# Altium integrated library Teccor Discrete SCR.IntLib: 103 symbols (part 1 of 2)
Pins are listed as number, name and electrical type; pins without a type are passive.

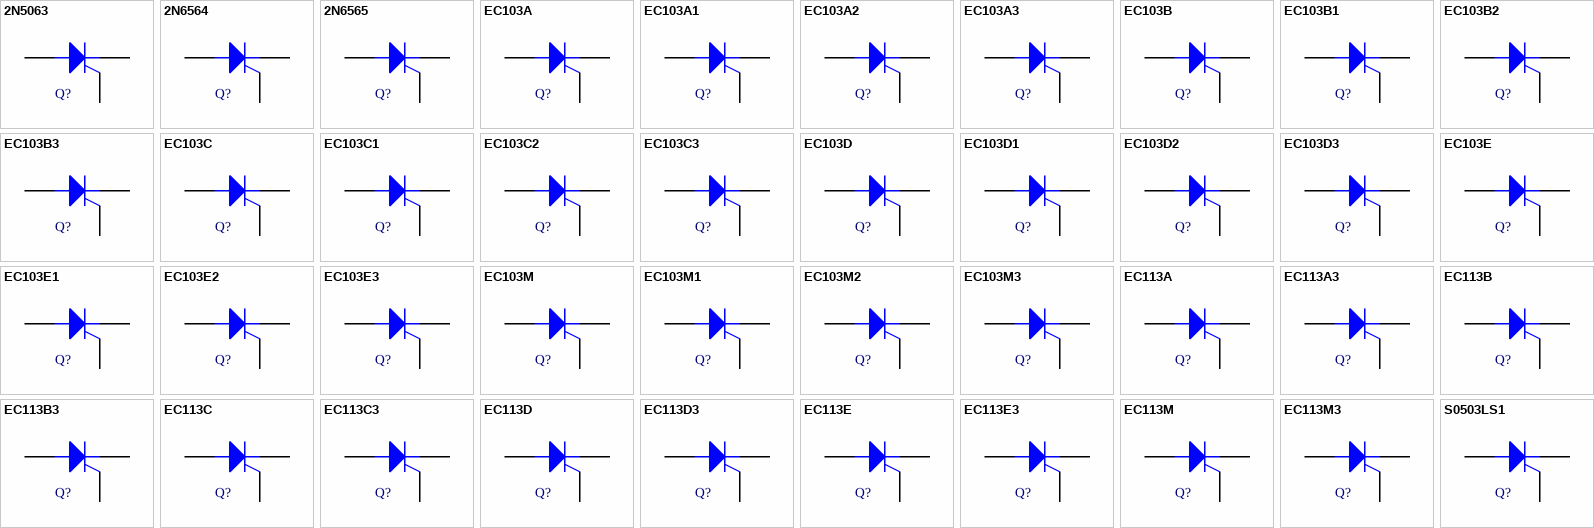
[diagram p0: symbols 2N5063 to S0503LS1]

## 2N5063
designator Q?
Sensitive SCR (0.8 Amp); Published: 8-Jun-2000; LatestRevisionDate: 17-Jul-2002; LatestRevisionNote: Re-released for DXP Platform.; PackageReference: TO-92; Publisher: Altium Limited; ComponentLink1Description: Manufacturer Link; ComponentLink1URL: http://www.littelfuse.com/; ComponentLink2Description: Datasheet; ComponentLink2URL: http://www.littelfuse.com/data/en/Data_Sheets/E5SensitiveSCR.pdf
footprint TO-92 (TO, Flat Index; 3 In-Line, Axial Leads; Body Dia. 4.6mm; Leads 0.48 x 0.43 mm (max))
simulation model 2N5063 (SUBCKT)
pins: 1 K, 2 G, 3 A

## 2N6564
designator Q?
Sensitive SCR (0.8 Amp); Published: 8-Jun-2000; LatestRevisionDate: 17-Jul-2002; LatestRevisionNote: Re-released for DXP Platform.; PackageReference: TO-92; Publisher: Altium Limited; ComponentLink1Description: Manufacturer Link; ComponentLink1URL: http://www.littelfuse.com/; ComponentLink2Description: Datasheet; ComponentLink2URL: http://www.littelfuse.com/data/en/Data_Sheets/E5SensitiveSCR.pdf
footprint TO-92 (TO, Flat Index; 3 In-Line, Axial Leads; Body Dia. 4.6mm; Leads 0.48 x 0.43 mm (max))
simulation model 2N6564 (SUBCKT)
pins: 1 K, 2 G, 3 A

## 2N6565
designator Q?
Sensitive SCR (0.8 Amp); Published: 8-Jun-2000; LatestRevisionDate: 17-Jul-2002; LatestRevisionNote: Re-released for DXP Platform.; PackageReference: TO-92; Publisher: Altium Limited; ComponentLink1Description: Manufacturer Link; ComponentLink1URL: http://www.littelfuse.com/; ComponentLink2Description: Datasheet; ComponentLink2URL: http://www.littelfuse.com/data/en/Data_Sheets/E5SensitiveSCR.pdf
footprint TO-92 (TO, Flat Index; 3 In-Line, Axial Leads; Body Dia. 4.6mm; Leads 0.48 x 0.43 mm (max))
simulation model 2N6565 (SUBCKT)
pins: 1 K, 2 G, 3 A

## EC103A
designator Q?
Sensitive SCR (0.8 Amp); Published: 8-Jun-2000; LatestRevisionDate: 17-Jul-2002; LatestRevisionNote: Re-released for DXP Platform.; PackageReference: TO-92; Publisher: Altium Limited; ComponentLink1Description: Manufacturer Link; ComponentLink1URL: http://www.littelfuse.com/; ComponentLink2Description: Datasheet; ComponentLink2URL: http://www.littelfuse.com/data/en/Data_Sheets/E5SensitiveSCR.pdf
footprint TO-92 (TO, Flat Index; 3 In-Line, Axial Leads; Body Dia. 4.6mm; Leads 0.48 x 0.43 mm (max))
simulation model EC103A (SUBCKT)
pins: 1 K, 2 G, 3 A

## EC103A1
designator Q?
Sensitive SCR (0.8 Amp); Published: 8-Jun-2000; LatestRevisionDate: 17-Jul-2002; LatestRevisionNote: Re-released for DXP Platform.; PackageReference: TO-92; Publisher: Altium Limited; ComponentLink1Description: Manufacturer Link; ComponentLink1URL: http://www.littelfuse.com/; ComponentLink2Description: Datasheet; ComponentLink2URL: http://www.littelfuse.com/data/en/Data_Sheets/E5SensitiveSCR.pdf
footprint TO-92 (TO, Flat Index; 3 In-Line, Axial Leads; Body Dia. 4.6mm; Leads 0.48 x 0.43 mm (max))
simulation model EC103A1 (SUBCKT)
pins: 1 K, 2 G, 3 A

## EC103A2
designator Q?
Sensitive SCR (0.8 Amp); Published: 8-Jun-2000; LatestRevisionDate: 17-Jul-2002; LatestRevisionNote: Re-released for DXP Platform.; PackageReference: TO-92; Publisher: Altium Limited; ComponentLink1Description: Manufacturer Link; ComponentLink1URL: http://www.littelfuse.com/; ComponentLink2Description: Datasheet; ComponentLink2URL: http://www.littelfuse.com/data/en/Data_Sheets/E5SensitiveSCR.pdf
footprint TO-92 (TO, Flat Index; 3 In-Line, Axial Leads; Body Dia. 4.6mm; Leads 0.48 x 0.43 mm (max))
simulation model EC103A2 (SUBCKT)
pins: 1 K, 2 G, 3 A

## EC103A3
designator Q?
Sensitive SCR (0.8 Amp); Published: 8-Jun-2000; LatestRevisionDate: 17-Jul-2002; LatestRevisionNote: Re-released for DXP Platform.; PackageReference: TO-92; Publisher: Altium Limited; ComponentLink1Description: Manufacturer Link; ComponentLink1URL: http://www.littelfuse.com/; ComponentLink2Description: Datasheet; ComponentLink2URL: http://www.littelfuse.com/data/en/Data_Sheets/E5SensitiveSCR.pdf
footprint TO-92 (TO, Flat Index; 3 In-Line, Axial Leads; Body Dia. 4.6mm; Leads 0.48 x 0.43 mm (max))
simulation model EC103A3 (SUBCKT)
pins: 1 K, 2 G, 3 A

## EC103B
designator Q?
Sensitive SCR (0.8 Amp); Published: 8-Jun-2000; LatestRevisionDate: 17-Jul-2002; LatestRevisionNote: Re-released for DXP Platform.; PackageReference: TO-92; Publisher: Altium Limited; ComponentLink1Description: Manufacturer Link; ComponentLink1URL: http://www.littelfuse.com/; ComponentLink2Description: Datasheet; ComponentLink2URL: http://www.littelfuse.com/data/en/Data_Sheets/E5SensitiveSCR.pdf
footprint TO-92 (TO, Flat Index; 3 In-Line, Axial Leads; Body Dia. 4.6mm; Leads 0.48 x 0.43 mm (max))
simulation model EC103B (SUBCKT)
pins: 1 K, 2 G, 3 A

## EC103B1
designator Q?
Sensitive SCR (0.8 Amp); Published: 8-Jun-2000; LatestRevisionDate: 17-Jul-2002; LatestRevisionNote: Re-released for DXP Platform.; PackageReference: TO-92; Publisher: Altium Limited; ComponentLink1Description: Manufacturer Link; ComponentLink1URL: http://www.littelfuse.com/; ComponentLink2Description: Datasheet; ComponentLink2URL: http://www.littelfuse.com/data/en/Data_Sheets/E5SensitiveSCR.pdf
footprint TO-92 (TO, Flat Index; 3 In-Line, Axial Leads; Body Dia. 4.6mm; Leads 0.48 x 0.43 mm (max))
simulation model EC103B1 (SUBCKT)
pins: 1 K, 2 G, 3 A

## EC103B2
designator Q?
Sensitive SCR (0.8 Amp); Published: 8-Jun-2000; LatestRevisionDate: 17-Jul-2002; LatestRevisionNote: Re-released for DXP Platform.; PackageReference: TO-92; Publisher: Altium Limited; ComponentLink1Description: Manufacturer Link; ComponentLink1URL: http://www.littelfuse.com/; ComponentLink2Description: Datasheet; ComponentLink2URL: http://www.littelfuse.com/data/en/Data_Sheets/E5SensitiveSCR.pdf
footprint TO-92 (TO, Flat Index; 3 In-Line, Axial Leads; Body Dia. 4.6mm; Leads 0.48 x 0.43 mm (max))
simulation model EC103B2 (SUBCKT)
pins: 1 K, 2 G, 3 A

## EC103B3
designator Q?
Sensitive SCR (0.8 Amp); Published: 8-Jun-2000; LatestRevisionDate: 17-Jul-2002; LatestRevisionNote: Re-released for DXP Platform.; PackageReference: TO-92; Publisher: Altium Limited; ComponentLink1Description: Manufacturer Link; ComponentLink1URL: http://www.littelfuse.com/; ComponentLink2Description: Datasheet; ComponentLink2URL: http://www.littelfuse.com/data/en/Data_Sheets/E5SensitiveSCR.pdf
footprint TO-92 (TO, Flat Index; 3 In-Line, Axial Leads; Body Dia. 4.6mm; Leads 0.48 x 0.43 mm (max))
simulation model EC103B3 (SUBCKT)
pins: 1 K, 2 G, 3 A

## EC103C
designator Q?
Sensitive SCR (0.8 Amp); Published: 8-Jun-2000; LatestRevisionDate: 17-Jul-2002; LatestRevisionNote: Re-released for DXP Platform.; PackageReference: TO-92; Publisher: Altium Limited; ComponentLink1Description: Manufacturer Link; ComponentLink1URL: http://www.littelfuse.com/; ComponentLink2Description: Datasheet; ComponentLink2URL: http://www.littelfuse.com/data/en/Data_Sheets/E5SensitiveSCR.pdf
footprint TO-92 (TO, Flat Index; 3 In-Line, Axial Leads; Body Dia. 4.6mm; Leads 0.48 x 0.43 mm (max))
simulation model EC103C (SUBCKT)
pins: 1 K, 2 G, 3 A

## EC103C1
designator Q?
Sensitive SCR (0.8 Amp); Published: 8-Jun-2000; LatestRevisionDate: 17-Jul-2002; LatestRevisionNote: Re-released for DXP Platform.; PackageReference: TO-92; Publisher: Altium Limited; ComponentLink1Description: Manufacturer Link; ComponentLink1URL: http://www.littelfuse.com/; ComponentLink2Description: Datasheet; ComponentLink2URL: http://www.littelfuse.com/data/en/Data_Sheets/E5SensitiveSCR.pdf
footprint TO-92 (TO, Flat Index; 3 In-Line, Axial Leads; Body Dia. 4.6mm; Leads 0.48 x 0.43 mm (max))
simulation model EC103C1 (SUBCKT)
pins: 1 K, 2 G, 3 A

## EC103C2
designator Q?
Sensitive SCR (0.8 Amp); Published: 8-Jun-2000; LatestRevisionDate: 17-Jul-2002; LatestRevisionNote: Re-released for DXP Platform.; PackageReference: TO-92; Publisher: Altium Limited; ComponentLink1Description: Manufacturer Link; ComponentLink1URL: http://www.littelfuse.com/; ComponentLink2Description: Datasheet; ComponentLink2URL: http://www.littelfuse.com/data/en/Data_Sheets/E5SensitiveSCR.pdf
footprint TO-92 (TO, Flat Index; 3 In-Line, Axial Leads; Body Dia. 4.6mm; Leads 0.48 x 0.43 mm (max))
simulation model EC103C2 (SUBCKT)
pins: 1 K, 2 G, 3 A

## EC103C3
designator Q?
Sensitive SCR (0.8 Amp); Published: 8-Jun-2000; LatestRevisionDate: 17-Jul-2002; LatestRevisionNote: Re-released for DXP Platform.; PackageReference: TO-92; Publisher: Altium Limited; ComponentLink1Description: Manufacturer Link; ComponentLink1URL: http://www.littelfuse.com/; ComponentLink2Description: Datasheet; ComponentLink2URL: http://www.littelfuse.com/data/en/Data_Sheets/E5SensitiveSCR.pdf
footprint TO-92 (TO, Flat Index; 3 In-Line, Axial Leads; Body Dia. 4.6mm; Leads 0.48 x 0.43 mm (max))
simulation model EC103C3 (SUBCKT)
pins: 1 K, 2 G, 3 A

## EC103D
designator Q?
Sensitive SCR (0.8 Amp); Published: 8-Jun-2000; LatestRevisionDate: 17-Jul-2002; LatestRevisionNote: Re-released for DXP Platform.; PackageReference: TO-92; Publisher: Altium Limited; ComponentLink1Description: Manufacturer Link; ComponentLink1URL: http://www.littelfuse.com/; ComponentLink2Description: Datasheet; ComponentLink2URL: http://www.littelfuse.com/data/en/Data_Sheets/E5SensitiveSCR.pdf
footprint TO-92 (TO, Flat Index; 3 In-Line, Axial Leads; Body Dia. 4.6mm; Leads 0.48 x 0.43 mm (max))
simulation model EC103D (SUBCKT)
pins: 1 K, 2 G, 3 A

## EC103D1
designator Q?
Sensitive SCR (0.8 Amp); Published: 8-Jun-2000; LatestRevisionDate: 17-Jul-2002; LatestRevisionNote: Re-released for DXP Platform.; PackageReference: TO-92; Publisher: Altium Limited; ComponentLink1Description: Manufacturer Link; ComponentLink1URL: http://www.littelfuse.com/; ComponentLink2Description: Datasheet; ComponentLink2URL: http://www.littelfuse.com/data/en/Data_Sheets/E5SensitiveSCR.pdf
footprint TO-92 (TO, Flat Index; 3 In-Line, Axial Leads; Body Dia. 4.6mm; Leads 0.48 x 0.43 mm (max))
simulation model EC103D1 (SUBCKT)
pins: 1 K, 2 G, 3 A

## EC103D2
designator Q?
Sensitive SCR (0.8 Amp); Published: 8-Jun-2000; LatestRevisionDate: 17-Jul-2002; LatestRevisionNote: Re-released for DXP Platform.; PackageReference: TO-92; Publisher: Altium Limited; ComponentLink1Description: Manufacturer Link; ComponentLink1URL: http://www.littelfuse.com/; ComponentLink2Description: Datasheet; ComponentLink2URL: http://www.littelfuse.com/data/en/Data_Sheets/E5SensitiveSCR.pdf
footprint TO-92 (TO, Flat Index; 3 In-Line, Axial Leads; Body Dia. 4.6mm; Leads 0.48 x 0.43 mm (max))
simulation model EC103D2 (SUBCKT)
pins: 1 K, 2 G, 3 A

## EC103D3
designator Q?
Sensitive SCR (0.8 Amp); Published: 8-Jun-2000; LatestRevisionDate: 17-Jul-2002; LatestRevisionNote: Re-released for DXP Platform.; PackageReference: TO-92; Publisher: Altium Limited; ComponentLink1Description: Manufacturer Link; ComponentLink1URL: http://www.littelfuse.com/; ComponentLink2Description: Datasheet; ComponentLink2URL: http://www.littelfuse.com/data/en/Data_Sheets/E5SensitiveSCR.pdf
footprint TO-92 (TO, Flat Index; 3 In-Line, Axial Leads; Body Dia. 4.6mm; Leads 0.48 x 0.43 mm (max))
simulation model EC103D3 (SUBCKT)
pins: 1 K, 2 G, 3 A

## EC103E
designator Q?
Sensitive SCR (0.8 Amp); Published: 8-Jun-2000; LatestRevisionDate: 17-Jul-2002; LatestRevisionNote: Re-released for DXP Platform.; PackageReference: TO-92; Publisher: Altium Limited; ComponentLink1Description: Manufacturer Link; ComponentLink1URL: http://www.littelfuse.com/; ComponentLink2Description: Datasheet; ComponentLink2URL: http://www.littelfuse.com/data/en/Data_Sheets/E5SensitiveSCR.pdf
footprint TO-92 (TO, Flat Index; 3 In-Line, Axial Leads; Body Dia. 4.6mm; Leads 0.48 x 0.43 mm (max))
simulation model EC103E (SUBCKT)
pins: 1 K, 2 G, 3 A

## EC103E1
designator Q?
Sensitive SCR (0.8 Amp); Published: 8-Jun-2000; LatestRevisionDate: 17-Jul-2002; LatestRevisionNote: Re-released for DXP Platform.; PackageReference: TO-92; Publisher: Altium Limited; ComponentLink1Description: Manufacturer Link; ComponentLink1URL: http://www.littelfuse.com/; ComponentLink2Description: Datasheet; ComponentLink2URL: http://www.littelfuse.com/data/en/Data_Sheets/E5SensitiveSCR.pdf
footprint TO-92 (TO, Flat Index; 3 In-Line, Axial Leads; Body Dia. 4.6mm; Leads 0.48 x 0.43 mm (max))
simulation model EC103E1 (SUBCKT)
pins: 1 K, 2 G, 3 A

## EC103E2
designator Q?
Sensitive SCR (0.8 Amp); Published: 8-Jun-2000; LatestRevisionDate: 17-Jul-2002; LatestRevisionNote: Re-released for DXP Platform.; PackageReference: TO-92; Publisher: Altium Limited; ComponentLink1Description: Manufacturer Link; ComponentLink1URL: http://www.littelfuse.com/; ComponentLink2Description: Datasheet; ComponentLink2URL: http://www.littelfuse.com/data/en/Data_Sheets/E5SensitiveSCR.pdf
footprint TO-92 (TO, Flat Index; 3 In-Line, Axial Leads; Body Dia. 4.6mm; Leads 0.48 x 0.43 mm (max))
simulation model EC103E2 (SUBCKT)
pins: 1 K, 2 G, 3 A

## EC103E3
designator Q?
Sensitive SCR (0.8 Amp); Published: 8-Jun-2000; LatestRevisionDate: 17-Jul-2002; LatestRevisionNote: Re-released for DXP Platform.; PackageReference: TO-92; Publisher: Altium Limited; ComponentLink1Description: Manufacturer Link; ComponentLink1URL: http://www.littelfuse.com/; ComponentLink2Description: Datasheet; ComponentLink2URL: http://www.littelfuse.com/data/en/Data_Sheets/E5SensitiveSCR.pdf
footprint TO-92 (TO, Flat Index; 3 In-Line, Axial Leads; Body Dia. 4.6mm; Leads 0.48 x 0.43 mm (max))
simulation model EC103E3 (SUBCKT)
pins: 1 K, 2 G, 3 A

## EC103M
designator Q?
Sensitive SCR (0.8 Amp); Published: 8-Jun-2000; LatestRevisionDate: 17-Jul-2002; LatestRevisionNote: Re-released for DXP Platform.; PackageReference: TO-92; Publisher: Altium Limited; ComponentLink1Description: Manufacturer Link; ComponentLink1URL: http://www.littelfuse.com/; ComponentLink2Description: Datasheet; ComponentLink2URL: http://www.littelfuse.com/data/en/Data_Sheets/E5SensitiveSCR.pdf
footprint TO-92 (TO, Flat Index; 3 In-Line, Axial Leads; Body Dia. 4.6mm; Leads 0.48 x 0.43 mm (max))
simulation model EC103M (SUBCKT)
pins: 1 K, 2 G, 3 A

## EC103M1
designator Q?
Sensitive SCR (0.8 Amp); Published: 8-Jun-2000; LatestRevisionDate: 17-Jul-2002; LatestRevisionNote: Re-released for DXP Platform.; PackageReference: TO-92; Publisher: Altium Limited; ComponentLink1Description: Manufacturer Link; ComponentLink1URL: http://www.littelfuse.com/; ComponentLink2Description: Datasheet; ComponentLink2URL: http://www.littelfuse.com/data/en/Data_Sheets/E5SensitiveSCR.pdf
footprint TO-92 (TO, Flat Index; 3 In-Line, Axial Leads; Body Dia. 4.6mm; Leads 0.48 x 0.43 mm (max))
simulation model EC103M1 (SUBCKT)
pins: 1 K, 2 G, 3 A

## EC103M2
designator Q?
Sensitive SCR (0.8 Amp); Published: 8-Jun-2000; LatestRevisionDate: 17-Jul-2002; LatestRevisionNote: Re-released for DXP Platform.; PackageReference: TO-92; Publisher: Altium Limited; ComponentLink1Description: Manufacturer Link; ComponentLink1URL: http://www.littelfuse.com/; ComponentLink2Description: Datasheet; ComponentLink2URL: http://www.littelfuse.com/data/en/Data_Sheets/E5SensitiveSCR.pdf
footprint TO-92 (TO, Flat Index; 3 In-Line, Axial Leads; Body Dia. 4.6mm; Leads 0.48 x 0.43 mm (max))
simulation model EC103M2 (SUBCKT)
pins: 1 K, 2 G, 3 A

## EC103M3
designator Q?
Sensitive SCR (0.8 Amp); Published: 8-Jun-2000; LatestRevisionDate: 17-Jul-2002; LatestRevisionNote: Re-released for DXP Platform.; PackageReference: TO-92; Publisher: Altium Limited; ComponentLink1Description: Manufacturer Link; ComponentLink1URL: http://www.littelfuse.com/; ComponentLink2Description: Datasheet; ComponentLink2URL: http://www.littelfuse.com/data/en/Data_Sheets/E5SensitiveSCR.pdf
footprint TO-92 (TO, Flat Index; 3 In-Line, Axial Leads; Body Dia. 4.6mm; Leads 0.48 x 0.43 mm (max))
simulation model EC103M3 (SUBCKT)
pins: 1 K, 2 G, 3 A

## EC113A
designator Q?
Sensitive SCR (0.8 Amp); Published: 8-Jun-2000; LatestRevisionDate: 17-Jul-2002; LatestRevisionNote: Re-released for DXP Platform.; PackageReference: TO-92; Publisher: Altium Limited; ComponentLink1Description: Manufacturer Link; ComponentLink1URL: http://www.littelfuse.com/; ComponentLink2Description: Datasheet; ComponentLink2URL: http://www.littelfuse.com/data/en/Data_Sheets/E5SensitiveSCR.pdf
footprint TO-92 (TO, Flat Index; 3 In-Line, Axial Leads; Body Dia. 4.6mm; Leads 0.48 x 0.43 mm (max))
simulation model EC113A (SUBCKT)
pins: 1 K, 2 G, 3 A

## EC113A3
designator Q?
Sensitive SCR (0.8 Amp); Published: 8-Jun-2000; LatestRevisionDate: 17-Jul-2002; LatestRevisionNote: Re-released for DXP Platform.; PackageReference: TO-92; Publisher: Altium Limited; ComponentLink1Description: Manufacturer Link; ComponentLink1URL: http://www.littelfuse.com/; ComponentLink2Description: Datasheet; ComponentLink2URL: http://www.littelfuse.com/data/en/Data_Sheets/E5SensitiveSCR.pdf
footprint TO-92 (TO, Flat Index; 3 In-Line, Axial Leads; Body Dia. 4.6mm; Leads 0.48 x 0.43 mm (max))
simulation model EC113A3 (SUBCKT)
pins: 1 K, 2 G, 3 A

## EC113B
designator Q?
Sensitive SCR (0.8 Amp); Published: 8-Jun-2000; LatestRevisionDate: 17-Jul-2002; LatestRevisionNote: Re-released for DXP Platform.; PackageReference: TO-92; Publisher: Altium Limited; ComponentLink1Description: Manufacturer Link; ComponentLink1URL: http://www.littelfuse.com/; ComponentLink2Description: Datasheet; ComponentLink2URL: http://www.littelfuse.com/data/en/Data_Sheets/E5SensitiveSCR.pdf
footprint TO-92 (TO, Flat Index; 3 In-Line, Axial Leads; Body Dia. 4.6mm; Leads 0.48 x 0.43 mm (max))
simulation model EC113B (SUBCKT)
pins: 1 K, 2 G, 3 A

## EC113B3
designator Q?
Sensitive SCR (0.8 Amp); Published: 8-Jun-2000; LatestRevisionDate: 17-Jul-2002; LatestRevisionNote: Re-released for DXP Platform.; PackageReference: TO-92; Publisher: Altium Limited; ComponentLink1Description: Manufacturer Link; ComponentLink1URL: http://www.littelfuse.com/; ComponentLink2Description: Datasheet; ComponentLink2URL: http://www.littelfuse.com/data/en/Data_Sheets/E5SensitiveSCR.pdf
footprint TO-92 (TO, Flat Index; 3 In-Line, Axial Leads; Body Dia. 4.6mm; Leads 0.48 x 0.43 mm (max))
simulation model EC113B3 (SUBCKT)
pins: 1 K, 2 G, 3 A

## EC113C
designator Q?
Sensitive SCR (0.8 Amp); Published: 8-Jun-2000; LatestRevisionDate: 17-Jul-2002; LatestRevisionNote: Re-released for DXP Platform.; PackageReference: TO-92; Publisher: Altium Limited; ComponentLink1Description: Manufacturer Link; ComponentLink1URL: http://www.littelfuse.com/; ComponentLink2Description: Datasheet; ComponentLink2URL: http://www.littelfuse.com/data/en/Data_Sheets/E5SensitiveSCR.pdf
footprint TO-92 (TO, Flat Index; 3 In-Line, Axial Leads; Body Dia. 4.6mm; Leads 0.48 x 0.43 mm (max))
simulation model EC113C (SUBCKT)
pins: 1 K, 2 G, 3 A

## EC113C3
designator Q?
Sensitive SCR (0.8 Amp); Published: 8-Jun-2000; LatestRevisionDate: 17-Jul-2002; LatestRevisionNote: Re-released for DXP Platform.; PackageReference: TO-92; Publisher: Altium Limited; ComponentLink1Description: Manufacturer Link; ComponentLink1URL: http://www.littelfuse.com/; ComponentLink2Description: Datasheet; ComponentLink2URL: http://www.littelfuse.com/data/en/Data_Sheets/E5SensitiveSCR.pdf
footprint TO-92 (TO, Flat Index; 3 In-Line, Axial Leads; Body Dia. 4.6mm; Leads 0.48 x 0.43 mm (max))
simulation model EC113C3 (SUBCKT)
pins: 1 K, 2 G, 3 A

## EC113D
designator Q?
Sensitive SCR (0.8 Amp); Published: 8-Jun-2000; LatestRevisionDate: 17-Jul-2002; LatestRevisionNote: Re-released for DXP Platform.; PackageReference: TO-92; Publisher: Altium Limited; ComponentLink1Description: Manufacturer Link; ComponentLink1URL: http://www.littelfuse.com/; ComponentLink2Description: Datasheet; ComponentLink2URL: http://www.littelfuse.com/data/en/Data_Sheets/E5SensitiveSCR.pdf
footprint TO-92 (TO, Flat Index; 3 In-Line, Axial Leads; Body Dia. 4.6mm; Leads 0.48 x 0.43 mm (max))
simulation model EC113D (SUBCKT)
pins: 1 K, 2 G, 3 A

## EC113D3
designator Q?
Sensitive SCR (0.8 Amp); Published: 8-Jun-2000; LatestRevisionDate: 17-Jul-2002; LatestRevisionNote: Re-released for DXP Platform.; PackageReference: TO-92; Publisher: Altium Limited; ComponentLink1Description: Manufacturer Link; ComponentLink1URL: http://www.littelfuse.com/; ComponentLink2Description: Datasheet; ComponentLink2URL: http://www.littelfuse.com/data/en/Data_Sheets/E5SensitiveSCR.pdf
footprint TO-92 (TO, Flat Index; 3 In-Line, Axial Leads; Body Dia. 4.6mm; Leads 0.48 x 0.43 mm (max))
simulation model EC113D3 (SUBCKT)
pins: 1 K, 2 G, 3 A

## EC113E
designator Q?
Sensitive SCR (0.8 Amp); Published: 8-Jun-2000; LatestRevisionDate: 17-Jul-2002; LatestRevisionNote: Re-released for DXP Platform.; PackageReference: TO-92; Publisher: Altium Limited; ComponentLink1Description: Manufacturer Link; ComponentLink1URL: http://www.littelfuse.com/; ComponentLink2Description: Datasheet; ComponentLink2URL: http://www.littelfuse.com/data/en/Data_Sheets/E5SensitiveSCR.pdf
footprint TO-92 (TO, Flat Index; 3 In-Line, Axial Leads; Body Dia. 4.6mm; Leads 0.48 x 0.43 mm (max))
simulation model EC113E (SUBCKT)
pins: 1 K, 2 G, 3 A

## EC113E3
designator Q?
Sensitive SCR (0.8 Amp); Published: 8-Jun-2000; LatestRevisionDate: 17-Jul-2002; LatestRevisionNote: Re-released for DXP Platform.; PackageReference: TO-92; Publisher: Altium Limited; ComponentLink1Description: Manufacturer Link; ComponentLink1URL: http://www.littelfuse.com/; ComponentLink2Description: Datasheet; ComponentLink2URL: http://www.littelfuse.com/data/en/Data_Sheets/E5SensitiveSCR.pdf
footprint TO-92 (TO, Flat Index; 3 In-Line, Axial Leads; Body Dia. 4.6mm; Leads 0.48 x 0.43 mm (max))
simulation model EC113E3 (SUBCKT)
pins: 1 K, 2 G, 3 A

## EC113M
designator Q?
Sensitive SCR (0.8 Amp); Published: 8-Jun-2000; LatestRevisionDate: 17-Jul-2002; LatestRevisionNote: Re-released for DXP Platform.; PackageReference: TO-92; Publisher: Altium Limited; ComponentLink1Description: Manufacturer Link; ComponentLink1URL: http://www.littelfuse.com/; ComponentLink2Description: Datasheet; ComponentLink2URL: http://www.littelfuse.com/data/en/Data_Sheets/E5SensitiveSCR.pdf
footprint TO-92 (TO, Flat Index; 3 In-Line, Axial Leads; Body Dia. 4.6mm; Leads 0.48 x 0.43 mm (max))
simulation model EC113M (SUBCKT)
pins: 1 K, 2 G, 3 A

## EC113M3
designator Q?
Sensitive SCR (0.8 Amp); Published: 8-Jun-2000; LatestRevisionDate: 17-Jul-2002; LatestRevisionNote: Re-released for DXP Platform.; PackageReference: TO-92; Publisher: Altium Limited; ComponentLink1Description: Manufacturer Link; ComponentLink1URL: http://www.littelfuse.com/; ComponentLink2Description: Datasheet; ComponentLink2URL: http://www.littelfuse.com/data/en/Data_Sheets/E5SensitiveSCR.pdf
footprint TO-92 (TO, Flat Index; 3 In-Line, Axial Leads; Body Dia. 4.6mm; Leads 0.48 x 0.43 mm (max))
simulation model EC113M3 (SUBCKT)
pins: 1 K, 2 G, 3 A

## S0503LS1
designator Q?
Sensitive SCR (3.0 Amps); Note: Tab is electrically isolated; Published: 8-Jun-2000; LatestRevisionDate: 17-Jul-2002; LatestRevisionNote: Re-released for DXP Platform.; PackageReference: TO-220AB; Publisher: Altium Limited; ComponentLink1Description: Manufacturer Link; ComponentLink1URL: http://www.littelfuse.com/
footprint TO-220AB (TO, Thru-Hole, Vertical, Heatsink Mounted; 3 In-Line Leads; Pitch 2.54 mm)
simulation model S0503LS1 (SUBCKT)
pins: 1 K, 2 A, 3 G

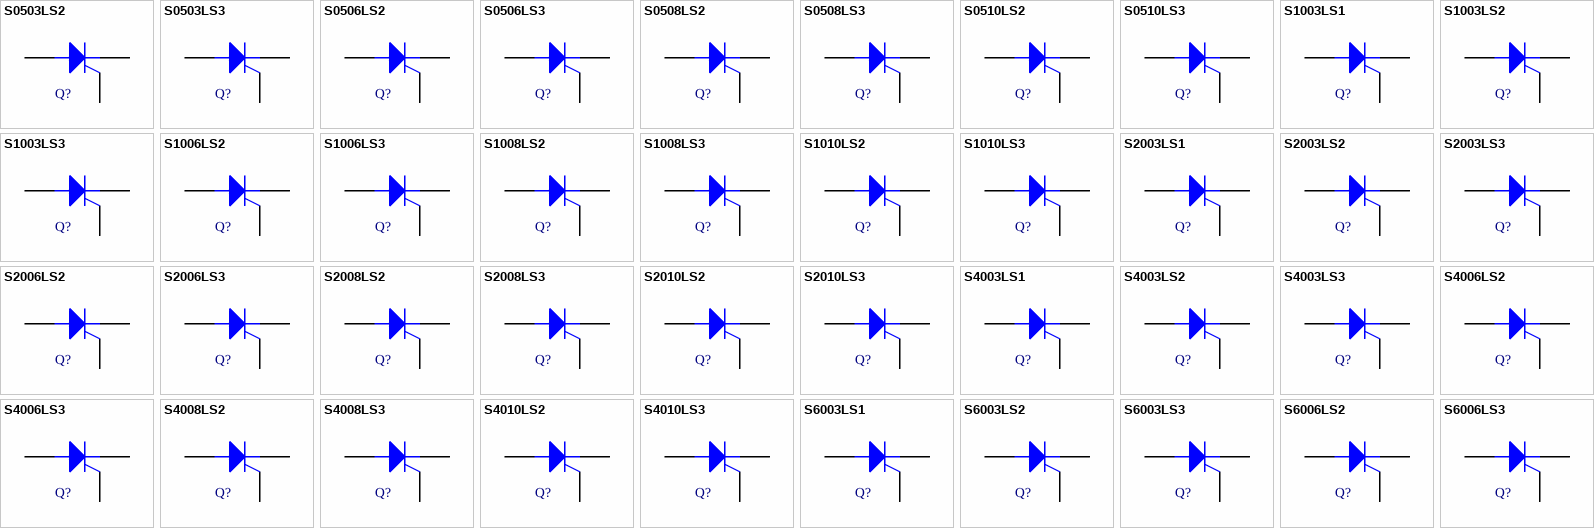
[diagram p1: symbols S0503LS2 to S6006LS3]

## S0503LS2
designator Q?
Sensitive SCR (3.0 Amps); Note: Tab is electrically isolated; Published: 8-Jun-2000; LatestRevisionDate: 17-Jul-2002; LatestRevisionNote: Re-released for DXP Platform.; PackageReference: TO-220AB; Publisher: Altium Limited; ComponentLink1Description: Manufacturer Link; ComponentLink1URL: http://www.littelfuse.com/
footprint TO-220AB (TO, Thru-Hole, Vertical, Heatsink Mounted; 3 In-Line Leads; Pitch 2.54 mm)
simulation model S0503LS2 (SUBCKT)
pins: 1 K, 2 A, 3 G

## S0503LS3
designator Q?
Sensitive SCR (3.0 Amps); Note: Tab is electrically isolated; Published: 8-Jun-2000; LatestRevisionDate: 17-Jul-2002; LatestRevisionNote: Re-released for DXP Platform.; PackageReference: TO-220AB; Publisher: Altium Limited; ComponentLink1Description: Manufacturer Link; ComponentLink1URL: http://www.littelfuse.com/
footprint TO-220AB (TO, Thru-Hole, Vertical, Heatsink Mounted; 3 In-Line Leads; Pitch 2.54 mm)
simulation model S0503LS3 (SUBCKT)
pins: 1 K, 2 A, 3 G

## S0506LS2
designator Q?
Sensitive SCR (6.0 Amps); Note: Tab is electrically isolated; Published: 8-Jun-2000; LatestRevisionDate: 17-Jul-2002; LatestRevisionNote: Re-released for DXP Platform.; PackageReference: TO-220AB; Publisher: Altium Limited; ComponentLink1Description: Manufacturer Link; ComponentLink1URL: http://www.littelfuse.com/; ComponentLink2Description: Datasheet; ComponentLink2URL: http://www.littelfuse.com/data/en/Data_Sheets/E5SensitiveSCR.pdf
footprint TO-220AB (TO, Thru-Hole, Vertical, Heatsink Mounted; 3 In-Line Leads; Pitch 2.54 mm)
simulation model S0506LS2 (SUBCKT)
pins: 1 K, 2 A, 3 G

## S0506LS3
designator Q?
Sensitive SCR (6.0 Amps); Note: Tab is electrically isolated; Published: 8-Jun-2000; LatestRevisionDate: 17-Jul-2002; LatestRevisionNote: Re-released for DXP Platform.; PackageReference: TO-220AB; Publisher: Altium Limited; ComponentLink1Description: Manufacturer Link; ComponentLink1URL: http://www.littelfuse.com/; ComponentLink2Description: Datasheet; ComponentLink2URL: http://www.littelfuse.com/data/en/Data_Sheets/E5SensitiveSCR.pdf
footprint TO-220AB (TO, Thru-Hole, Vertical, Heatsink Mounted; 3 In-Line Leads; Pitch 2.54 mm)
simulation model S0506LS3 (SUBCKT)
pins: 1 K, 2 A, 3 G

## S0508LS2
designator Q?
Sensitive SCR (8.0 Amps); Note: Tab is electrically isolated; Published: 8-Jun-2000; LatestRevisionDate: 17-Jul-2002; LatestRevisionNote: Re-released for DXP Platform.; PackageReference: TO-220AB; Publisher: Altium Limited; ComponentLink1Description: Manufacturer Link; ComponentLink1URL: http://www.littelfuse.com/; ComponentLink2Description: Datasheet; ComponentLink2URL: http://www.littelfuse.com/data/en/Data_Sheets/E5SensitiveSCR.pdf
footprint TO-220AB (TO, Thru-Hole, Vertical, Heatsink Mounted; 3 In-Line Leads; Pitch 2.54 mm)
simulation model S0508LS2 (SUBCKT)
pins: 1 K, 2 A, 3 G

## S0508LS3
designator Q?
Sensitive SCR (8.0 Amps); Note: Tab is electrically isolated; Published: 8-Jun-2000; LatestRevisionDate: 17-Jul-2002; LatestRevisionNote: Re-released for DXP Platform.; PackageReference: TO-220AB; Publisher: Altium Limited; ComponentLink1Description: Manufacturer Link; ComponentLink1URL: http://www.littelfuse.com/; ComponentLink2Description: Datasheet; ComponentLink2URL: http://www.littelfuse.com/data/en/Data_Sheets/E5SensitiveSCR.pdf
footprint TO-220AB (TO, Thru-Hole, Vertical, Heatsink Mounted; 3 In-Line Leads; Pitch 2.54 mm)
simulation model S0508LS3 (SUBCKT)
pins: 1 K, 2 A, 3 G

## S0510LS2
designator Q?
Sensitive SCR (10.0 Amps); Note: Tab is electrically isolated; Published: 8-Jun-2000; LatestRevisionDate: 17-Jul-2002; LatestRevisionNote: Re-released for DXP Platform.; PackageReference: TO-220AB; Publisher: Altium Limited; ComponentLink1Description: Manufacturer Link; ComponentLink1URL: http://www.littelfuse.com/; ComponentLink2Description: Datasheet; ComponentLink2URL: http://www.littelfuse.com/data/en/Data_Sheets/E5SensitiveSCR.pdf
footprint TO-220AB (TO, Thru-Hole, Vertical, Heatsink Mounted; 3 In-Line Leads; Pitch 2.54 mm)
simulation model S0510LS2 (SUBCKT)
pins: 1 K, 2 A, 3 G

## S0510LS3
designator Q?
Sensitive SCR (10.0 Amps); Note: Tab is electrically isolated; Published: 8-Jun-2000; LatestRevisionDate: 17-Jul-2002; LatestRevisionNote: Re-released for DXP Platform.; PackageReference: TO-220AB; Publisher: Altium Limited; ComponentLink1Description: Manufacturer Link; ComponentLink1URL: http://www.littelfuse.com/; ComponentLink2Description: Datasheet; ComponentLink2URL: http://www.littelfuse.com/data/en/Data_Sheets/E5SensitiveSCR.pdf
footprint TO-220AB (TO, Thru-Hole, Vertical, Heatsink Mounted; 3 In-Line Leads; Pitch 2.54 mm)
simulation model S0510LS3 (SUBCKT)
pins: 1 K, 2 A, 3 G

## S1003LS1
designator Q?
Sensitive SCR (3.0 Amps); Note: Tab is electrically isolated; Published: 8-Jun-2000; LatestRevisionDate: 17-Jul-2002; LatestRevisionNote: Re-released for DXP Platform.; PackageReference: TO-220AB; Publisher: Altium Limited; ComponentLink1Description: Manufacturer Link; ComponentLink1URL: http://www.littelfuse.com/
footprint TO-220AB (TO, Thru-Hole, Vertical, Heatsink Mounted; 3 In-Line Leads; Pitch 2.54 mm)
simulation model S1003LS1 (SUBCKT)
pins: 1 K, 2 A, 3 G

## S1003LS2
designator Q?
Sensitive SCR (3.0 Amps); Note: Tab is electrically isolated; Published: 8-Jun-2000; LatestRevisionDate: 17-Jul-2002; LatestRevisionNote: Re-released for DXP Platform.; PackageReference: TO-220AB; Publisher: Altium Limited; ComponentLink1Description: Manufacturer Link; ComponentLink1URL: http://www.littelfuse.com/
footprint TO-220AB (TO, Thru-Hole, Vertical, Heatsink Mounted; 3 In-Line Leads; Pitch 2.54 mm)
simulation model S1003LS2 (SUBCKT)
pins: 1 K, 2 A, 3 G

## S1003LS3
designator Q?
Sensitive SCR (3.0 Amps); Note: Tab is electrically isolated; Published: 8-Jun-2000; LatestRevisionDate: 17-Jul-2002; LatestRevisionNote: Re-released for DXP Platform.; PackageReference: TO-220AB; Publisher: Altium Limited; ComponentLink1Description: Manufacturer Link; ComponentLink1URL: http://www.littelfuse.com/
footprint TO-220AB (TO, Thru-Hole, Vertical, Heatsink Mounted; 3 In-Line Leads; Pitch 2.54 mm)
simulation model S1003LS3 (SUBCKT)
pins: 1 K, 2 A, 3 G

## S1006LS2
designator Q?
Sensitive SCR (6.0 Amps); Note: Tab is electrically isolated; Published: 8-Jun-2000; LatestRevisionDate: 17-Jul-2002; LatestRevisionNote: Re-released for DXP Platform.; PackageReference: TO-220AB; Publisher: Altium Limited; ComponentLink1Description: Manufacturer Link; ComponentLink1URL: http://www.littelfuse.com/; ComponentLink2Description: Datasheet; ComponentLink2URL: http://www.littelfuse.com/data/en/Data_Sheets/E5SensitiveSCR.pdf
footprint TO-220AB (TO, Thru-Hole, Vertical, Heatsink Mounted; 3 In-Line Leads; Pitch 2.54 mm)
simulation model S1006LS2 (SUBCKT)
pins: 1 K, 2 A, 3 G

## S1006LS3
designator Q?
Sensitive SCR (6.0 Amps); Note: Tab is electrically isolated; Published: 8-Jun-2000; LatestRevisionDate: 17-Jul-2002; LatestRevisionNote: Re-released for DXP Platform.; PackageReference: TO-220AB; Publisher: Altium Limited; ComponentLink1Description: Manufacturer Link; ComponentLink1URL: http://www.littelfuse.com/; ComponentLink2Description: Datasheet; ComponentLink2URL: http://www.littelfuse.com/data/en/Data_Sheets/E5SensitiveSCR.pdf
footprint TO-220AB (TO, Thru-Hole, Vertical, Heatsink Mounted; 3 In-Line Leads; Pitch 2.54 mm)
simulation model S1006LS3 (SUBCKT)
pins: 1 K, 2 A, 3 G

## S1008LS2
designator Q?
Sensitive SCR (8.0 Amps); Note: Tab is electrically isolated; Published: 8-Jun-2000; LatestRevisionDate: 17-Jul-2002; LatestRevisionNote: Re-released for DXP Platform.; PackageReference: TO-220AB; Publisher: Altium Limited; ComponentLink1Description: Manufacturer Link; ComponentLink1URL: http://www.littelfuse.com/; ComponentLink2Description: Datasheet; ComponentLink2URL: http://www.littelfuse.com/data/en/Data_Sheets/E5SensitiveSCR.pdf
footprint TO-220AB (TO, Thru-Hole, Vertical, Heatsink Mounted; 3 In-Line Leads; Pitch 2.54 mm)
simulation model S1008LS2 (SUBCKT)
pins: 1 K, 2 A, 3 G

## S1008LS3
designator Q?
Sensitive SCR (8.0 Amps); Note: Tab is electrically isolated; Published: 8-Jun-2000; LatestRevisionDate: 17-Jul-2002; LatestRevisionNote: Re-released for DXP Platform.; PackageReference: TO-220AB; Publisher: Altium Limited; ComponentLink1Description: Manufacturer Link; ComponentLink1URL: http://www.littelfuse.com/; ComponentLink2Description: Datasheet; ComponentLink2URL: http://www.littelfuse.com/data/en/Data_Sheets/E5SensitiveSCR.pdf
footprint TO-220AB (TO, Thru-Hole, Vertical, Heatsink Mounted; 3 In-Line Leads; Pitch 2.54 mm)
simulation model S1008LS3 (SUBCKT)
pins: 1 K, 2 A, 3 G

## S1010LS2
designator Q?
Sensitive SCR (10.0 Amps); Note: Tab is electrically isolated; Published: 8-Jun-2000; LatestRevisionDate: 17-Jul-2002; LatestRevisionNote: Re-released for DXP Platform.; PackageReference: TO-220AB; Publisher: Altium Limited; ComponentLink1Description: Manufacturer Link; ComponentLink1URL: http://www.littelfuse.com/; ComponentLink2Description: Datasheet; ComponentLink2URL: http://www.littelfuse.com/data/en/Data_Sheets/E5SensitiveSCR.pdf
footprint TO-220AB (TO, Thru-Hole, Vertical, Heatsink Mounted; 3 In-Line Leads; Pitch 2.54 mm)
simulation model S1010LS2 (SUBCKT)
pins: 1 K, 2 A, 3 G

## S1010LS3
designator Q?
Sensitive SCR (10.0 Amps); Note: Tab is electrically isolated; Published: 8-Jun-2000; LatestRevisionDate: 17-Jul-2002; LatestRevisionNote: Re-released for DXP Platform.; PackageReference: TO-220AB; Publisher: Altium Limited; ComponentLink1Description: Manufacturer Link; ComponentLink1URL: http://www.littelfuse.com/; ComponentLink2Description: Datasheet; ComponentLink2URL: http://www.littelfuse.com/data/en/Data_Sheets/E5SensitiveSCR.pdf
footprint TO-220AB (TO, Thru-Hole, Vertical, Heatsink Mounted; 3 In-Line Leads; Pitch 2.54 mm)
simulation model S1010LS3 (SUBCKT)
pins: 1 K, 2 A, 3 G

## S2003LS1
designator Q?
Sensitive SCR (3.0 Amps); Note: Tab is electrically isolated; Published: 8-Jun-2000; LatestRevisionDate: 17-Jul-2002; LatestRevisionNote: Re-released for DXP Platform.; PackageReference: TO-220AB; Publisher: Altium Limited; ComponentLink1Description: Manufacturer Link; ComponentLink1URL: http://www.littelfuse.com/
footprint TO-220AB (TO, Thru-Hole, Vertical, Heatsink Mounted; 3 In-Line Leads; Pitch 2.54 mm)
simulation model S2003LS1 (SUBCKT)
pins: 1 K, 2 A, 3 G

## S2003LS2
designator Q?
Sensitive SCR (3.0 Amps); Note: Tab is electrically isolated; Published: 8-Jun-2000; LatestRevisionDate: 17-Jul-2002; LatestRevisionNote: Re-released for DXP Platform.; PackageReference: TO-220AB; Publisher: Altium Limited; ComponentLink1Description: Manufacturer Link; ComponentLink1URL: http://www.littelfuse.com/
footprint TO-220AB (TO, Thru-Hole, Vertical, Heatsink Mounted; 3 In-Line Leads; Pitch 2.54 mm)
simulation model S2003LS2 (SUBCKT)
pins: 1 K, 2 A, 3 G

## S2003LS3
designator Q?
Sensitive SCR (3.0 Amps); Note: Tab is electrically isolated; Published: 8-Jun-2000; LatestRevisionDate: 17-Jul-2002; LatestRevisionNote: Re-released for DXP Platform.; PackageReference: TO-220AB; Publisher: Altium Limited; ComponentLink1Description: Manufacturer Link; ComponentLink1URL: http://www.littelfuse.com/
footprint TO-220AB (TO, Thru-Hole, Vertical, Heatsink Mounted; 3 In-Line Leads; Pitch 2.54 mm)
simulation model S2003LS3 (SUBCKT)
pins: 1 K, 2 A, 3 G

## S2006LS2
designator Q?
Sensitive SCR (6.0 Amps); Note: Tab is electrically isolated; Published: 8-Jun-2000; LatestRevisionDate: 17-Jul-2002; LatestRevisionNote: Re-released for DXP Platform.; PackageReference: TO-220AB; Publisher: Altium Limited; ComponentLink1Description: Manufacturer Link; ComponentLink1URL: http://www.littelfuse.com/; ComponentLink2Description: Datasheet; ComponentLink2URL: http://www.littelfuse.com/data/en/Data_Sheets/E5SensitiveSCR.pdf
footprint TO-220AB (TO, Thru-Hole, Vertical, Heatsink Mounted; 3 In-Line Leads; Pitch 2.54 mm)
simulation model S2006LS2 (SUBCKT)
pins: 1 K, 2 A, 3 G

## S2006LS3
designator Q?
Sensitive SCR (6.0 Amps); Note: Tab is electrically isolated; Published: 8-Jun-2000; LatestRevisionDate: 17-Jul-2002; LatestRevisionNote: Re-released for DXP Platform.; PackageReference: TO-220AB; Publisher: Altium Limited; ComponentLink1Description: Manufacturer Link; ComponentLink1URL: http://www.littelfuse.com/; ComponentLink2Description: Datasheet; ComponentLink2URL: http://www.littelfuse.com/data/en/Data_Sheets/E5SensitiveSCR.pdf
footprint TO-220AB (TO, Thru-Hole, Vertical, Heatsink Mounted; 3 In-Line Leads; Pitch 2.54 mm)
simulation model S2006LS3 (SUBCKT)
pins: 1 K, 2 A, 3 G

## S2008LS2
designator Q?
Sensitive SCR (8.0 Amps); Note: Tab is electrically isolated; Published: 8-Jun-2000; LatestRevisionDate: 17-Jul-2002; LatestRevisionNote: Re-released for DXP Platform.; PackageReference: TO-220AB; Publisher: Altium Limited; ComponentLink1Description: Manufacturer Link; ComponentLink1URL: http://www.littelfuse.com/; ComponentLink2Description: Datasheet; ComponentLink2URL: http://www.littelfuse.com/data/en/Data_Sheets/E5SensitiveSCR.pdf
footprint TO-220AB (TO, Thru-Hole, Vertical, Heatsink Mounted; 3 In-Line Leads; Pitch 2.54 mm)
simulation model S2008LS2 (SUBCKT)
pins: 1 K, 2 A, 3 G

## S2008LS3
designator Q?
Sensitive SCR (8.0 Amps); Note: Tab is electrically isolated; Published: 8-Jun-2000; LatestRevisionDate: 17-Jul-2002; LatestRevisionNote: Re-released for DXP Platform.; PackageReference: TO-220AB; Publisher: Altium Limited; ComponentLink1Description: Manufacturer Link; ComponentLink1URL: http://www.littelfuse.com/; ComponentLink2Description: Datasheet; ComponentLink2URL: http://www.littelfuse.com/data/en/Data_Sheets/E5SensitiveSCR.pdf
footprint TO-220AB (TO, Thru-Hole, Vertical, Heatsink Mounted; 3 In-Line Leads; Pitch 2.54 mm)
simulation model S2008LS3 (SUBCKT)
pins: 1 K, 2 A, 3 G

## S2010LS2
designator Q?
Sensitive SCR (10.0 Amps); Note: Tab is electrically isolated; Published: 8-Jun-2000; LatestRevisionDate: 17-Jul-2002; LatestRevisionNote: Re-released for DXP Platform.; PackageReference: TO-220AB; Publisher: Altium Limited; ComponentLink1Description: Manufacturer Link; ComponentLink1URL: http://www.littelfuse.com/; ComponentLink2Description: Datasheet; ComponentLink2URL: http://www.littelfuse.com/data/en/Data_Sheets/E5SensitiveSCR.pdf
footprint TO-220AB (TO, Thru-Hole, Vertical, Heatsink Mounted; 3 In-Line Leads; Pitch 2.54 mm)
simulation model S2010LS2 (SUBCKT)
pins: 1 K, 2 A, 3 G

## S2010LS3
designator Q?
Sensitive SCR (10.0 Amps); Note: Tab is electrically isolated; Published: 8-Jun-2000; LatestRevisionDate: 17-Jul-2002; LatestRevisionNote: Re-released for DXP Platform.; PackageReference: TO-220AB; Publisher: Altium Limited; ComponentLink1Description: Manufacturer Link; ComponentLink1URL: http://www.littelfuse.com/; ComponentLink2Description: Datasheet; ComponentLink2URL: http://www.littelfuse.com/data/en/Data_Sheets/E5SensitiveSCR.pdf
footprint TO-220AB (TO, Thru-Hole, Vertical, Heatsink Mounted; 3 In-Line Leads; Pitch 2.54 mm)
simulation model S2010LS3 (SUBCKT)
pins: 1 K, 2 A, 3 G

## S4003LS1
designator Q?
Sensitive SCR (3.0 Amps); Note: Tab is electrically isolated; Published: 8-Jun-2000; LatestRevisionDate: 17-Jul-2002; LatestRevisionNote: Re-released for DXP Platform.; PackageReference: TO-220AB; Publisher: Altium Limited; ComponentLink1Description: Manufacturer Link; ComponentLink1URL: http://www.littelfuse.com/
footprint TO-220AB (TO, Thru-Hole, Vertical, Heatsink Mounted; 3 In-Line Leads; Pitch 2.54 mm)
simulation model S4003LS1 (SUBCKT)
pins: 1 K, 2 A, 3 G

## S4003LS2
designator Q?
Sensitive SCR (3.0 Amps); Note: Tab is electrically isolated; Published: 8-Jun-2000; LatestRevisionDate: 17-Jul-2002; LatestRevisionNote: Re-released for DXP Platform.; PackageReference: TO-220AB; Publisher: Altium Limited; ComponentLink1Description: Manufacturer Link; ComponentLink1URL: http://www.littelfuse.com/
footprint TO-220AB (TO, Thru-Hole, Vertical, Heatsink Mounted; 3 In-Line Leads; Pitch 2.54 mm)
simulation model S4003LS2 (SUBCKT)
pins: 1 K, 2 A, 3 G

## S4003LS3
designator Q?
Sensitive SCR (3.0 Amps); Note: Tab is electrically isolated; Published: 8-Jun-2000; LatestRevisionDate: 17-Jul-2002; LatestRevisionNote: Re-released for DXP Platform.; PackageReference: TO-220AB; Publisher: Altium Limited; ComponentLink1Description: Manufacturer Link; ComponentLink1URL: http://www.littelfuse.com/
footprint TO-220AB (TO, Thru-Hole, Vertical, Heatsink Mounted; 3 In-Line Leads; Pitch 2.54 mm)
simulation model S4003LS3 (SUBCKT)
pins: 1 K, 2 A, 3 G

## S4006LS2
designator Q?
Sensitive SCR (6.0 Amps); Note: Tab is electrically isolated; Published: 8-Jun-2000; LatestRevisionDate: 17-Jul-2002; LatestRevisionNote: Re-released for DXP Platform.; PackageReference: TO-220AB; Publisher: Altium Limited; ComponentLink1Description: Manufacturer Link; ComponentLink1URL: http://www.littelfuse.com/; ComponentLink2Description: Datasheet; ComponentLink2URL: http://www.littelfuse.com/data/en/Data_Sheets/E5SensitiveSCR.pdf
footprint TO-220AB (TO, Thru-Hole, Vertical, Heatsink Mounted; 3 In-Line Leads; Pitch 2.54 mm)
simulation model S4006LS2 (SUBCKT)
pins: 1 K, 2 A, 3 G

## S4006LS3
designator Q?
Sensitive SCR (6.0 Amps); Note: Tab is electrically isolated; Published: 8-Jun-2000; LatestRevisionDate: 17-Jul-2002; LatestRevisionNote: Re-released for DXP Platform.; PackageReference: TO-220AB; Publisher: Altium Limited; ComponentLink1Description: Manufacturer Link; ComponentLink1URL: http://www.littelfuse.com/; ComponentLink2Description: Datasheet; ComponentLink2URL: http://www.littelfuse.com/data/en/Data_Sheets/E5SensitiveSCR.pdf
footprint TO-220AB (TO, Thru-Hole, Vertical, Heatsink Mounted; 3 In-Line Leads; Pitch 2.54 mm)
simulation model S4006LS3 (SUBCKT)
pins: 1 K, 2 A, 3 G

## S4008LS2
designator Q?
Sensitive SCR (8.0 Amps); Note: Tab is electrically isolated; Published: 8-Jun-2000; LatestRevisionDate: 17-Jul-2002; LatestRevisionNote: Re-released for DXP Platform.; PackageReference: TO-220AB; Publisher: Altium Limited; ComponentLink1Description: Manufacturer Link; ComponentLink1URL: http://www.littelfuse.com/; ComponentLink2Description: Datasheet; ComponentLink2URL: http://www.littelfuse.com/data/en/Data_Sheets/E5SensitiveSCR.pdf
footprint TO-220AB (TO, Thru-Hole, Vertical, Heatsink Mounted; 3 In-Line Leads; Pitch 2.54 mm)
simulation model S4008LS2 (SUBCKT)
pins: 1 K, 2 A, 3 G

## S4008LS3
designator Q?
Sensitive SCR (8.0 Amps); Note: Tab is electrically isolated; Published: 8-Jun-2000; LatestRevisionDate: 17-Jul-2002; LatestRevisionNote: Re-released for DXP Platform.; PackageReference: TO-220AB; Publisher: Altium Limited; ComponentLink1Description: Manufacturer Link; ComponentLink1URL: http://www.littelfuse.com/; ComponentLink2Description: Datasheet; ComponentLink2URL: http://www.littelfuse.com/data/en/Data_Sheets/E5SensitiveSCR.pdf
footprint TO-220AB (TO, Thru-Hole, Vertical, Heatsink Mounted; 3 In-Line Leads; Pitch 2.54 mm)
simulation model S4008LS3 (SUBCKT)
pins: 1 K, 2 A, 3 G

## S4010LS2
designator Q?
Sensitive SCR (10.0 Amps); Note: Tab is electrically isolated; Published: 8-Jun-2000; LatestRevisionDate: 17-Jul-2002; LatestRevisionNote: Re-released for DXP Platform.; PackageReference: TO-220AB; Publisher: Altium Limited; ComponentLink1Description: Manufacturer Link; ComponentLink1URL: http://www.littelfuse.com/; ComponentLink2Description: Datasheet; ComponentLink2URL: http://www.littelfuse.com/data/en/Data_Sheets/E5SensitiveSCR.pdf
footprint TO-220AB (TO, Thru-Hole, Vertical, Heatsink Mounted; 3 In-Line Leads; Pitch 2.54 mm)
simulation model S4010LS2 (SUBCKT)
pins: 1 K, 2 A, 3 G

## S4010LS3
designator Q?
Sensitive SCR (10.0 Amps); Note: Tab is electrically isolated; Published: 8-Jun-2000; LatestRevisionDate: 17-Jul-2002; LatestRevisionNote: Re-released for DXP Platform.; PackageReference: TO-220AB; Publisher: Altium Limited; ComponentLink1Description: Manufacturer Link; ComponentLink1URL: http://www.littelfuse.com/; ComponentLink2Description: Datasheet; ComponentLink2URL: http://www.littelfuse.com/data/en/Data_Sheets/E5SensitiveSCR.pdf
footprint TO-220AB (TO, Thru-Hole, Vertical, Heatsink Mounted; 3 In-Line Leads; Pitch 2.54 mm)
simulation model S4010LS3 (SUBCKT)
pins: 1 K, 2 A, 3 G

## S6003LS1
designator Q?
Sensitive SCR (3.0 Amps); Note: Tab is electrically isolated; Published: 8-Jun-2000; LatestRevisionDate: 17-Jul-2002; LatestRevisionNote: Re-released for DXP Platform.; PackageReference: TO-220AB; Publisher: Altium Limited; ComponentLink1Description: Manufacturer Link; ComponentLink1URL: http://www.littelfuse.com/
footprint TO-220AB (TO, Thru-Hole, Vertical, Heatsink Mounted; 3 In-Line Leads; Pitch 2.54 mm)
simulation model S6003LS1 (SUBCKT)
pins: 1 K, 2 A, 3 G

## S6003LS2
designator Q?
Sensitive SCR (3.0 Amps); Note: Tab is electrically isolated; Published: 8-Jun-2000; LatestRevisionDate: 17-Jul-2002; LatestRevisionNote: Re-released for DXP Platform.; PackageReference: TO-220AB; Publisher: Altium Limited; ComponentLink1Description: Manufacturer Link; ComponentLink1URL: http://www.littelfuse.com/
footprint TO-220AB (TO, Thru-Hole, Vertical, Heatsink Mounted; 3 In-Line Leads; Pitch 2.54 mm)
simulation model S6003LS2 (SUBCKT)
pins: 1 K, 2 A, 3 G

## S6003LS3
designator Q?
Sensitive SCR (3.0 Amps); Note: Tab is electrically isolated; Published: 8-Jun-2000; LatestRevisionDate: 17-Jul-2002; LatestRevisionNote: Re-released for DXP Platform.; PackageReference: TO-220AB; Publisher: Altium Limited; ComponentLink1Description: Manufacturer Link; ComponentLink1URL: http://www.littelfuse.com/
footprint TO-220AB (TO, Thru-Hole, Vertical, Heatsink Mounted; 3 In-Line Leads; Pitch 2.54 mm)
simulation model S6003LS3 (SUBCKT)
pins: 1 K, 2 A, 3 G

## S6006LS2
designator Q?
Sensitive SCR (6.0 Amps); Note: Tab is electrically isolated; Published: 8-Jun-2000; LatestRevisionDate: 17-Jul-2002; LatestRevisionNote: Re-released for DXP Platform.; PackageReference: TO-220AB; Publisher: Altium Limited; ComponentLink1Description: Manufacturer Link; ComponentLink1URL: http://www.littelfuse.com/; ComponentLink2Description: Datasheet; ComponentLink2URL: http://www.littelfuse.com/data/en/Data_Sheets/E5SensitiveSCR.pdf
footprint TO-220AB (TO, Thru-Hole, Vertical, Heatsink Mounted; 3 In-Line Leads; Pitch 2.54 mm)
simulation model S6006LS2 (SUBCKT)
pins: 1 K, 2 A, 3 G

## S6006LS3
designator Q?
Sensitive SCR (6.0 Amps); Note: Tab is electrically isolated; Published: 8-Jun-2000; LatestRevisionDate: 17-Jul-2002; LatestRevisionNote: Re-released for DXP Platform.; PackageReference: TO-220AB; Publisher: Altium Limited; ComponentLink1Description: Manufacturer Link; ComponentLink1URL: http://www.littelfuse.com/; ComponentLink2Description: Datasheet; ComponentLink2URL: http://www.littelfuse.com/data/en/Data_Sheets/E5SensitiveSCR.pdf
footprint TO-220AB (TO, Thru-Hole, Vertical, Heatsink Mounted; 3 In-Line Leads; Pitch 2.54 mm)
simulation model S6006LS3 (SUBCKT)
pins: 1 K, 2 A, 3 G

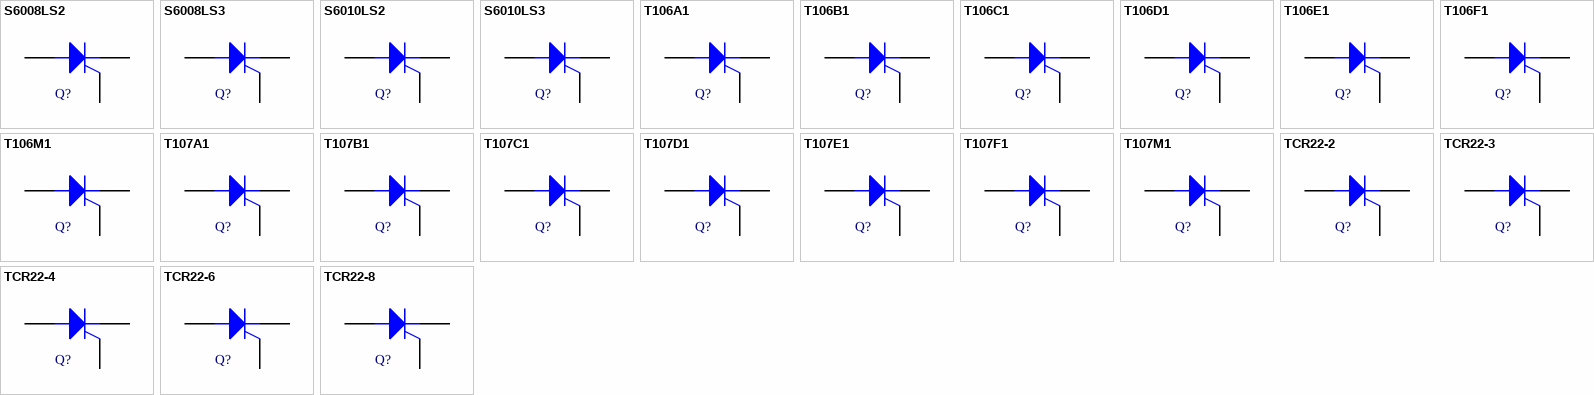
[diagram p2: symbols S6008LS2 to TCR22-8]

## S6008LS2
designator Q?
Sensitive SCR (8.0 Amps); Note: Tab is electrically isolated; Published: 8-Jun-2000; LatestRevisionDate: 17-Jul-2002; LatestRevisionNote: Re-released for DXP Platform.; PackageReference: TO-220AB; Publisher: Altium Limited; ComponentLink1Description: Manufacturer Link; ComponentLink1URL: http://www.littelfuse.com/; ComponentLink2Description: Datasheet; ComponentLink2URL: http://www.littelfuse.com/data/en/Data_Sheets/E5SensitiveSCR.pdf
footprint TO-220AB (TO, Thru-Hole, Vertical, Heatsink Mounted; 3 In-Line Leads; Pitch 2.54 mm)
simulation model S6008LS2 (SUBCKT)
pins: 1 K, 2 A, 3 G

## S6008LS3
designator Q?
Sensitive SCR (8.0 Amps); Note: Tab is electrically isolated; Published: 8-Jun-2000; LatestRevisionDate: 17-Jul-2002; LatestRevisionNote: Re-released for DXP Platform.; PackageReference: TO-220AB; Publisher: Altium Limited; ComponentLink1Description: Manufacturer Link; ComponentLink1URL: http://www.littelfuse.com/; ComponentLink2Description: Datasheet; ComponentLink2URL: http://www.littelfuse.com/data/en/Data_Sheets/E5SensitiveSCR.pdf
footprint TO-220AB (TO, Thru-Hole, Vertical, Heatsink Mounted; 3 In-Line Leads; Pitch 2.54 mm)
simulation model S6008LS3 (SUBCKT)
pins: 1 K, 2 A, 3 G

## S6010LS2
designator Q?
Sensitive SCR (10.0 Amps); Note: Tab is electrically isolated; Published: 8-Jun-2000; LatestRevisionDate: 17-Jul-2002; LatestRevisionNote: Re-released for DXP Platform.; PackageReference: TO-220AB; Publisher: Altium Limited; ComponentLink1Description: Manufacturer Link; ComponentLink1URL: http://www.littelfuse.com/; ComponentLink2Description: Datasheet; ComponentLink2URL: http://www.littelfuse.com/data/en/Data_Sheets/E5SensitiveSCR.pdf
footprint TO-220AB (TO, Thru-Hole, Vertical, Heatsink Mounted; 3 In-Line Leads; Pitch 2.54 mm)
simulation model S6010LS2 (SUBCKT)
pins: 1 K, 2 A, 3 G

## S6010LS3
designator Q?
Sensitive SCR (10.0 Amps); Note: Tab is electrically isolated; Published: 8-Jun-2000; LatestRevisionDate: 17-Jul-2002; LatestRevisionNote: Re-released for DXP Platform.; PackageReference: TO-220AB; Publisher: Altium Limited; ComponentLink1Description: Manufacturer Link; ComponentLink1URL: http://www.littelfuse.com/; ComponentLink2Description: Datasheet; ComponentLink2URL: http://www.littelfuse.com/data/en/Data_Sheets/E5SensitiveSCR.pdf
footprint TO-220AB (TO, Thru-Hole, Vertical, Heatsink Mounted; 3 In-Line Leads; Pitch 2.54 mm)
simulation model S6010LS3 (SUBCKT)
pins: 1 K, 2 A, 3 G

## T106A1
designator Q?
Sensitive SCR (4.0 Amps); Published: 8-Jun-2000; LatestRevisionDate: 17-Jul-2002; LatestRevisionNote: Re-released for DXP Platform.; PackageReference: TO-202AB; Publisher: Altium Limited; ComponentLink1Description: Manufacturer Link; ComponentLink1URL: http://www.littelfuse.com/; ComponentLink2Description: Datasheet; ComponentLink2URL: http://www.littelfuse.com/data/en/Data_Sheets/E5SensitiveSCR.pdf
footprint TO-202AB (TO, Thru-Hole, Vertical, Heatsink Mounted; 3 In-Line Leads; Pitch 2.54 mm)
simulation model T106A1 (SUBCKT)
pins: 1 K, 2 A, 3 G

## T106B1
designator Q?
Sensitive SCR (4.0 Amps); Published: 8-Jun-2000; LatestRevisionDate: 17-Jul-2002; LatestRevisionNote: Re-released for DXP Platform.; PackageReference: TO-202AB; Publisher: Altium Limited; ComponentLink1Description: Manufacturer Link; ComponentLink1URL: http://www.littelfuse.com/; ComponentLink2Description: Datasheet; ComponentLink2URL: http://www.littelfuse.com/data/en/Data_Sheets/E5SensitiveSCR.pdf
footprint TO-202AB (TO, Thru-Hole, Vertical, Heatsink Mounted; 3 In-Line Leads; Pitch 2.54 mm)
simulation model T106B1 (SUBCKT)
pins: 1 K, 2 A, 3 G